# Altium footprint library MiscPCB.PcbLib: 16 footprints
Each footprint in its own frame and in the unit in brackets; x right, y up, seen from the top. Pads: shape width x height; smd on the part's side, far side on the other; paste and mask are expansions set on the pad; w line width, h text height; cw(c..) or ccw(c..) is an arc to the next point about the centre after c.
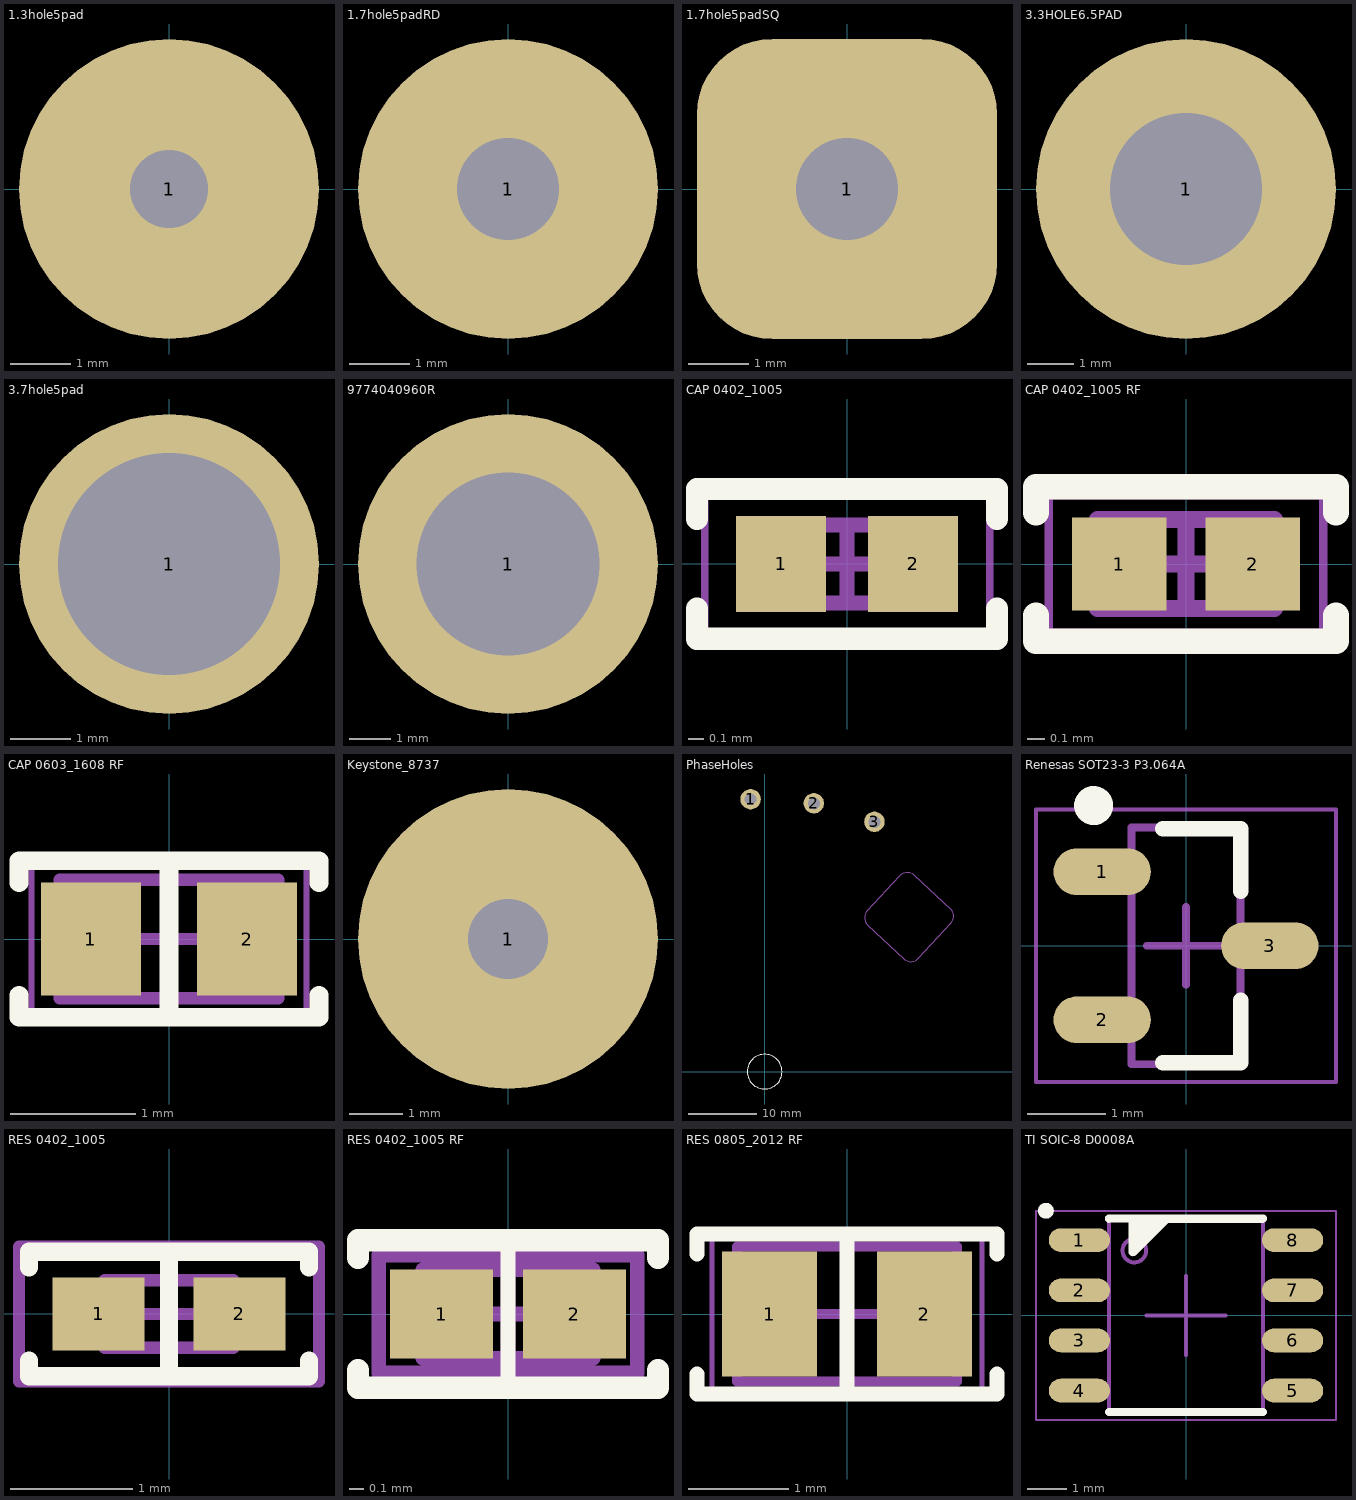
[diagram p0: the footprints below, top view; thin cyan lines are the x and y axes]

## 1.3hole5pad [mm] "1.3mm hole with 5mm pad"
pads (1):
  round 5 hole 1.3 paste-1.27 mask+0.051: 1(0,0)

## 1.7hole5padRD [mm] "1.7mm hole with 5mm round pad"
pads (1):
  round 5 hole 1.7 paste-1.27 mask+0.051: 1(0,0)

## 1.7hole5padSQ [mm] "1.7mm hole with 5mm square pad"
pads (1):
  rrect50% 5x5 hole 1.7 paste-1.27 mask+0.051: 1(0,0)

## 3.3HOLE6.5PAD [mm] "3.7mm hole with 6.5mm pad"
pads (1):
  round 6.5 hole 3.3: 1(0,0)

## 3.7hole5pad [mm] "3.7mm hole with 5mm pad"
pads (1):
  round 5 hole 3.7 paste-1.27 mask+0.051: 1(0,0)

## 9774040960R [mm]
pads (1):
  round 7.2 / inner round 0 / far side round 0 hole 4.4 unplated: 1(0,0)
3D body "9774040960R (rev1).stp": height 4.01, standoff -1.39, extent -3,-2.997 2.988,2.997

## CAP 0402_1005 [mm] "Chip Capacitor, 2-Leads, Body 1.02x0.51mm, IPC Medium Density"
height 0.52
pads (2):
  rect 0.6x0.64 smd: 1(-0.44,0) 2(0.44,0)
Top Overlay:
  lines w0.15: -1,-0.3 -1,-0.5 1,-0.5 1,-0.3 ; -1,0.3 -1,0.5 1,0.5 1,0.3
Mechanical 13:
  lines w0.1: -0.515,-0.26 -0.515,0.26 0.515,0.26 0.515,-0.26 -0.515,-0.26
Mechanical 15:
  lines w0.05: -0.95,-0.5 -0.95,0.5 0.95,0.5 0.95,-0.5 -0.95,-0.5
  lines w0.1: -0.26,0 0.26,0 ; 0,-0.26 0,0.26
3D body "0402 cap.STEP": height 0.52, standoff 0, extent -0.5,-0.262 0.5,0.262

## CAP 0402_1005 RF [mm] "Chip Capacitor, 2-Leads, Body 1.02x0.51mm, IPC High Density"
height 0.52
pads (2):
  rect 0.55x0.54 smd: 1(-0.39,0) 2(0.39,0)
Top Overlay:
  lines w0.15: -0.875,-0.3 -0.875,-0.45 0.875,-0.45 0.875,-0.3 ; -0.875,0.3 -0.875,0.45 0.875,0.45 0.875,0.3
Mechanical 13:
  lines w0.1: -0.515,-0.26 -0.515,0.26 0.515,0.26 0.515,-0.26 -0.515,-0.26
Mechanical 15:
  lines w0.05: -0.8,-0.4 -0.8,0.4 0.8,0.4 0.8,-0.4 -0.8,-0.4
  lines w0.1: -0.26,0 0.26,0 ; 0,-0.26 0,0.26
3D body "0402 cap.STEP": height 0.52, standoff 0, extent -0.5,-0.262 0.5,0.262

## CAP 0603_1608 RF [mm] "Chip Capacitor, 2-Leads, Body 1.60x0.80mm, IPC High Density"
height 0.89
pads (2):
  rect 0.8x0.9 smd: 1(-0.625,0) 2(0.625,0)
Top Overlay:
  lines w0.15: -1.2,-0.45 -1.2,-0.625 1.2,-0.625 1.2,-0.45 ; -1.2,0.45 -1.2,0.625 1.2,0.625 1.2,0.45 ; 0,-0.625 0,0.625
Mechanical 13:
  lines w0.1: -0.875,-0.475 -0.875,0.475 0.875,0.475 0.875,-0.475 -0.875,-0.475
Mechanical 15:
  lines w0.05: -1.1,-0.6 -1.1,0.6 1.1,0.6 1.1,-0.6 -1.1,-0.6
  lines w0.1: -0.475,0 0.475,0 ; 0,-0.475 0,0.475
3D body "0603 cap.STEP": height 0.82, standoff 0, extent -0.8,-0.412 0.8,0.412

## Keystone_8737 [mm]
pads (1):
  round 5.6 hole 1.5 paste-1.27 mask+0.051: 1(0,0)
3D body "keystone-PN8737m.step": height 7.91, standoff -5.07, extent -2.682,-2.009 3.468,2.004

## PhaseHoles [mm] "Phase Holes for Halodi"
pads (3):
  round 3 hole 1.75 unplated paste-1.27 mask+0.051: 1(-2.07,39.936) 2(7.199,39.342) 3(16.08,36.626)
Top Overlay:
  circle w0.127: c0,0 r2.54
Mechanical 9:
  circle w0.013: c7.199,39.342 r0.875
  circle w0.013: c-2.069,39.936 r0.875
  circle w0.013: c16.081,36.626 r0.875
  circle w0.013: c-2.07,39.936 r0.875
  lines w0.013: 15.039,23.59 ccw(c16.136,22.567) 15.113,21.47 20.398,16.542 ccw(c21.421,17.639) 22.518,16.616 27.292,21.735 ccw(c26.195,22.758) 27.218,23.855 21.933,28.784 ccw(c20.91,27.687) 19.813,28.71 15.039,23.59
Drill Drawing:
  lines w0.013: 15.039,23.59 ccw(c16.136,22.567) 15.113,21.47 20.398,16.542 ccw(c21.421,17.639) 22.518,16.616 27.292,21.735 ccw(c26.195,22.758) 27.218,23.855 21.933,28.784 ccw(c20.91,27.687) 19.813,28.71 15.039,23.59

## Renesas SOT23-3 P3.064A [mm] "SOT23, 3-Leads, Body 2.92x2.37mm, Pitch 0.95mm, IPC Medium Density"
height 1.12
pads (3):
  oval 1.25x0.6 smd: 1(-1.075,0.95) 2(-1.075,-0.95) 3(1.075,0)
Top Overlay:
  circle w0.25: c-1.185,1.8 r0.125
  lines w0.2: -0.3,-1.5 0.7,-1.5 0.7,-0.7 ; -0.3,1.5 0.7,1.5 0.7,0.7
Mechanical 13:
  lines w0.1: -0.7,-1.52 0.7,-1.52 0.7,1.52 -0.7,1.52 -0.7,-1.52
Mechanical 15:
  lines w0.05: -1.925,-1.75 1.925,-1.75 1.925,1.75 -1.925,1.75 -1.925,-1.75
  lines w0.1: -0.5,0 0.5,0 ; 0,-0.5 0,0.5
3D body "TI SOT-23-3 DBZ.step": height 1.12, standoff 0, extent -1.32,-1.52 1.32,1.52

## RES 0402_1005 [mm] "Chip Resistor, 2-Leads, Body 1.0x0.5mm, IPC Medium Density"
height 0.4
pads (2):
  rect 0.75x0.6 smd: 1(-0.575,0) 2(0.575,0)
Top Overlay:
  lines w0.15: -1.143,-0.381 -1.143,-0.508 1.143,-0.508 1.143,-0.381 ; -1.143,0.381 -1.143,0.508 1.143,0.508 1.143,0.381 ; 0,-0.508 0,0.508
Mechanical 13:
  lines w0.1: -0.525,-0.275 -0.525,0.275 0.525,0.275 0.525,-0.275 -0.525,-0.275
Mechanical 15:
  lines w0.1: -0.275,0 0.275,0 ; 0,-0.275 0,0.275 ; -1.225,-0.55 -1.225,0.55 1.225,0.55 1.225,-0.55 -1.225,-0.55
3D body "0402 resistor.STEP": height 0.35, standoff 0, extent -0.5,-0.25 0.5,0.25

## RES 0402_1005 RF [mm] "Chip Resistor, 2-Leads, Body 1.0x0.5mm, IPC High Density"
height 0.4
pads (2):
  rect 0.7x0.6 smd: 1(-0.45,0) 2(0.45,0)
Top Overlay:
  lines w0.1: 0,-0.508 0,0.508
  lines w0.15: -1.016,-0.381 -1.016,-0.5 1.016,-0.5 1.016,-0.381 ; -1.016,0.381 -1.016,0.5 1.016,0.5 1.016,0.381
Mechanical 13:
  lines w0.1: -0.575,-0.3 0.575,-0.3 0.575,0.3 -0.575,0.3 -0.575,-0.3
Mechanical 15:
  lines w0.1: -0.3,0 0.3,0 ; 0,-0.3 0,0.3 ; -0.875,-0.4 0.875,-0.4 0.875,0.4 -0.875,0.4 -0.875,-0.4
3D body "0402 resistor.STEP": height 0.35, standoff 0, extent -0.5,-0.25 0.5,0.25

## RES 0805_2012 RF [mm] "Chip Resistor, 2-Leads, Body 2.00x1.25mm, IPC High Density"
height 0.7
pads (2):
  rect 0.95x1.25 smd: 1(-0.775,0) 2(0.775,0)
Top Overlay:
  lines w0.15: -1.5,-0.6 -1.5,-0.8 1.5,-0.8 1.5,-0.6 ; -1.5,0.6 -1.5,0.8 1.5,0.8 1.5,0.6 ; 0,-0.8 0,0.8
Mechanical 13:
  lines w0.1: -1.1,-0.675 -1.1,0.675 1.1,0.675 1.1,-0.675 -1.1,-0.675
Mechanical 15:
  lines w0.05: -1.35,-0.8 -1.35,0.8 1.35,0.8 1.35,-0.8 -1.35,-0.8
  lines w0.1: -0.5,0 0.5,0 ; 0,-0.5 0,0.5
3D body "0805 resistor.STEP": height 0.6, standoff 0, extent -1,-0.625 1,0.625

## TI SOIC-8 D0008A [mm] "Package SOIC-8, 8-Leades, 4.90 x 3.89 mm Body , Pitch 1.27 mm"
height 1.75
pads (8):
  oval 1.55x0.6 smd: 1(-2.7,1.905) 2(-2.7,0.635) 3(-2.7,-0.635) 4(-2.7,-1.905) 5(2.7,-1.905) 6(2.7,-0.635) 7(2.7,0.635) 8(2.7,1.905)
Top Overlay:
  circle w0.2: c-3.55,2.65 r0.1
  region: -1.947,2.352 -1.45,2.352 -1.45,1.6 -1.45,1.57 -1.417,1.519 -1.36,1.496 -1.301,1.507 -1.279,1.529 -0.456,2.352 1.947,2.352 1.967,2.352 2.004,2.367 2.033,2.396 2.048,2.432 2.048,2.452 2.048,2.472 2.033,2.509 2.004,2.538 1.967,2.553 1.947,2.553 -1.947,2.553 -1.989,2.553 -2.047,2.494 -2.047,2.411 -1.989,2.352
  lines w0.2: -1.947,-2.452 1.947,-2.452 ; -1.947,2.452 1.947,2.452 ; -1.35,2.45 -1.35,1.6 -0.5,2.45
Mechanical 13:
  circle w0.1: c-1.309,1.641 r0.3
  lines w0.1: -1.947,-2.452 1.947,-2.452 1.947,2.452 -1.947,2.452 -1.947,-2.452
Mechanical 15:
  lines w0.05: -3.8,-2.65 3.8,-2.65 3.8,2.65 -3.8,2.65 -3.8,-2.65
  lines w0.1: -1,0 0,0 ; 0,-1 0,0 ; 0,1 0,0 ; 1,0 0,0
3D body "TI - SOIC-8 - D008A v3.STEP": height 1.75, standoff 0, extent -3,-2.452 3,2.452